# EAGLE library part STM32F407DISCOVERY (library Interposer)
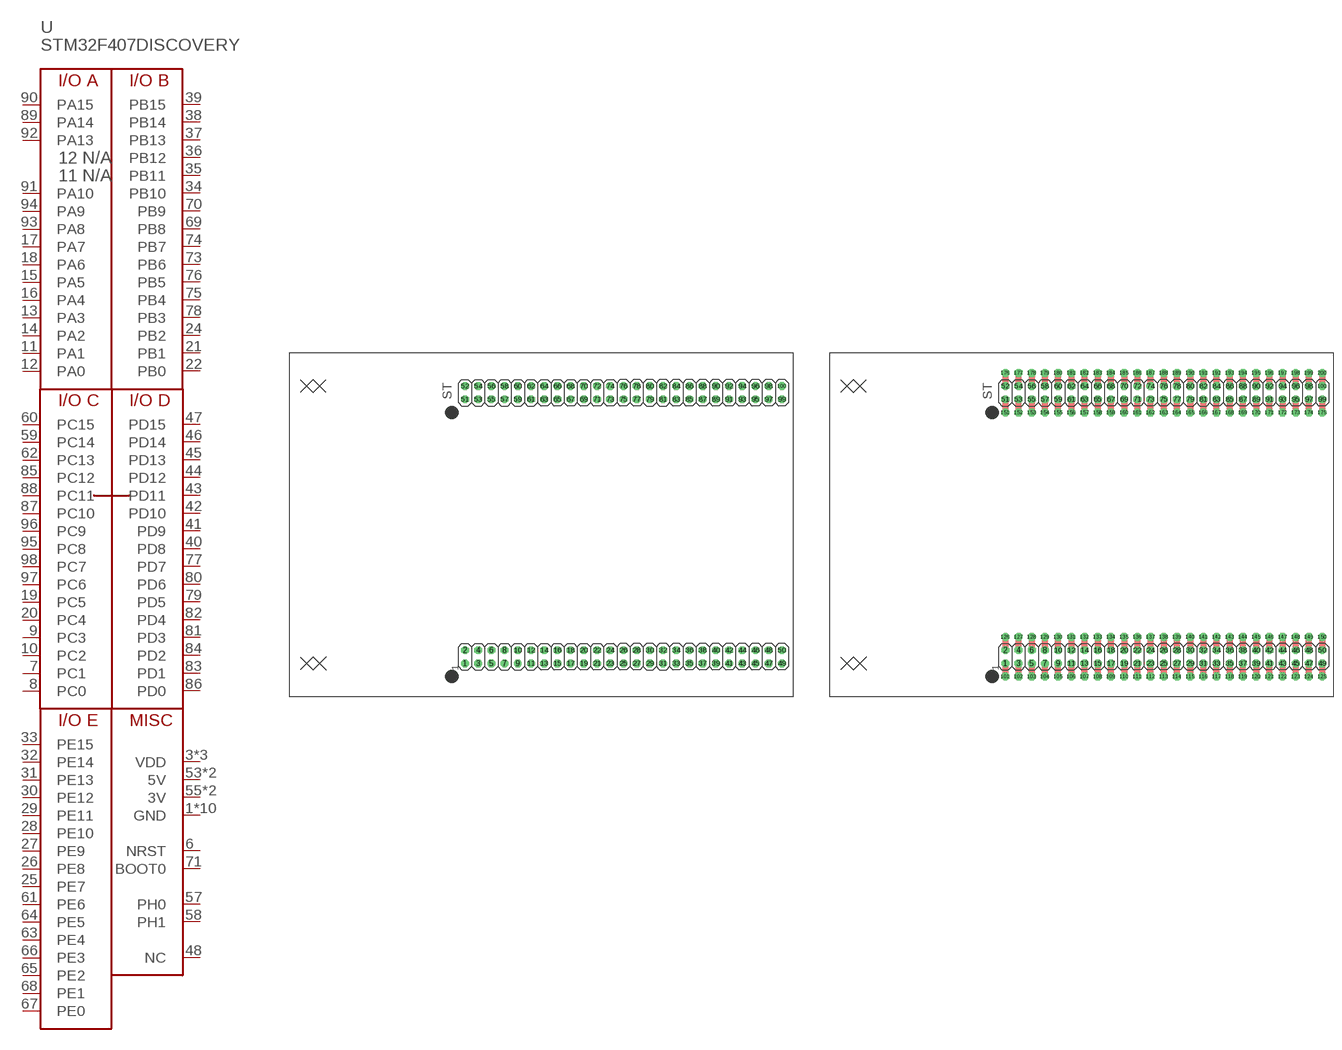
[diagram p0: symbol with the pads of STM32F407DISC; footprints STM32F407DISC, STM32F407DISC_WITH_PROTO_HEADERS]

Designator prefix -

## STM32F407DISCOVERY  [STM32F407DISC]
1  GND  sup
2  GND  sup
3  VDD  sup
4  VDD  sup
5  GND  sup
6  NRST
7  PC1
8  PC0
9  PC3
10  PC2
11  PA1
12  PA0
13  PA3
14  PA2
15  PA5
16  PA4
17  PA7
18  PA6
19  PC5
20  PC4
21  PB1
22  PB0
23  GND  sup
24  PB2
25  PE7
26  PE8
27  PE9
28  PE10
29  PE11
30  PE12
31  PE13
32  PE14
33  PE15
34  PB10
35  PB11
36  PB12
37  PB13
38  PB14
39  PB15
40  PD8
41  PD9
42  PD10
43  PD11
44  PD12
45  PD13
46  PD14
47  PD15
48  NC  nc
49  GND  sup
50  GND  sup
51  GND  sup
52  GND  sup
53  5V  sup
54  5V  sup
55  3V  sup
56  3V  sup
57  PH0
58  PH1
59  PC14
60  PC15
61  PE6
62  PC13
63  PE4
64  PE5
65  PE2
66  PE3
67  PE0
68  PE1
69  PB8
70  PB9
71  BOOT0
72  VDD  sup
73  PB6
74  PB7
75  PB4
76  PB5
77  PD7
78  PB3
79  PD5
80  PD6
81  PD3
82  PD4
83  PD1
84  PD2
85  PC12
86  PD0
87  PC10
88  PC11
89  PA14
90  PA15
91  PA10
92  PA13
93  PA8
94  PA9
95  PC8
96  PC9
97  PC6
98  PC7
99  GND  sup
100  GND  sup

## STM32F407DISCOVERYSTM32F407DISC-PROTO  [STM32F407DISC_WITH_PROTO_HEADERS]
1  GND  sup
2  GND  sup
3  VDD  sup
4  VDD  sup
5  GND  sup
6  NRST
7  PC1
8  PC0
9  PC3
10  PC2
11  PA1
12  PA0
13  PA3
14  PA2
15  PA5
16  PA4
17  PA7
18  PA6
19  PC5
20  PC4
21  PB1
22  PB0
23  GND  sup
24  PB2
25  PE7
26  PE8
27  PE9
28  PE10
29  PE11
30  PE12
31  PE13
32  PE14
33  PE15
34  PB10
35  PB11
36  PB12
37  PB13
38  PB14
39  PB15
40  PD8
41  PD9
42  PD10
43  PD11
44  PD12
45  PD13
46  PD14
47  PD15
48  NC  nc
49  GND  sup
50  GND  sup
51  GND  sup
52  GND  sup
53  5V  sup
54  5V  sup
55  3V  sup
56  3V  sup
57  PH0
58  PH1
59  PC14
60  PC15
61  PE6
62  PC13
63  PE4
64  PE5
65  PE2
66  PE3
67  PE0
68  PE1
69  PB8
70  PB9
71  BOOT0
72  VDD  sup
73  PB6
74  PB7
75  PB4
76  PB5
77  PD7
78  PB3
79  PD5
80  PD6
81  PD3
82  PD4
83  PD1
84  PD2
85  PC12
86  PD0
87  PC10
88  PC11
89  PA14
90  PA15
91  PA10
92  PA13
93  PA8
94  PA9
95  PC8
96  PC9
97  PC6
98  PC7
99  GND  sup
100  GND  sup
101  GND  sup
102  VDD  sup
103  GND  sup
104  PC1
105  PC3
106  PA1
107  PA3
108  PA5
109  PA7
110  PC5
111  PB1
112  GND  sup
113  PE7
114  PE9
115  PE11
116  PE13
117  PE15
118  PB11
119  PB13
120  PB15
121  PD9
122  PD11
123  PD13
124  PD15
125  GND  sup
126  GND  sup
127  VDD  sup
128  NRST
129  PC0
130  PC2
131  PA0
132  PA2
133  PA4
134  PA6
135  PC4
136  PB0
137  PB2
138  PE8
139  PE10
140  PE12
141  PE14
142  PB10
143  PB12
144  PB14
145  PD8
146  PD10
147  PD12
148  PD14
149  NC  nc
150  GND  sup
151  GND  sup
152  5V  sup
153  3V  sup
154  PH0
155  PC14
156  PE6
157  PE4
158  PE2
159  PE0
160  PB8
161  BOOT0
162  PB6
163  PB4
164  PD7
165  PD5
166  PD3
167  PD1
168  PC12
169  PC10
170  PA14
171  PA10
172  PA8
173  PC8
174  PC6
175  GND  sup
176  GND  sup
177  5V  sup
178  3V  sup
179  PH1
180  PC15
181  PC13
182  PE5
183  PE3
184  PE1
185  PB9
186  VDD  sup
187  PB7
188  PB5
189  PB3
190  PD6
191  PD4
192  PD2
193  PD0
194  PC11
195  PA15
196  PA13
197  PA9
198  PC9
199  PC7
200  GND  sup

## Footprint STM32F407DISC (pad centres in mm)
PIN HEADER
drill 1.016 octagon: 1 0,0; 2 0,2.54; 3 2.54,0; 4 2.54,2.54; 5 5.08,0; 6 5.08,2.54; 7 7.62,0; 8 7.62,2.54; 9 10.16,0; 10 10.16,2.54; 11 12.7,0; 12 12.7,2.54; 13 15.24,0; 14 15.24,2.54; 15 17.78,0; 16 17.78,2.54; 17 20.32,0; 18 20.32,2.54; 19 22.86,0; 20 22.86,2.54; 21 25.4,0; 22 25.4,2.54; 23 27.94,0; 24 27.94,2.54; 25 30.48,0; 26 30.48,2.54; 27 33.02,0; 28 33.02,2.54; 29 35.56,0; 30 35.56,2.54; 31 38.1,0; 32 38.1,2.54; 33 40.64,0; 34 40.64,2.54; 35 43.18,0; 36 43.18,2.54; 37 45.72,0; 38 45.72,2.54; 39 48.26,0; 40 48.26,2.54; 41 50.8,0; 42 50.8,2.54; 43 53.34,0; 44 53.34,2.54; 45 55.88,0; 46 55.88,2.54; 47 58.42,0; 48 58.42,2.54; 49 60.96,0; 50 60.96,2.54; 51 0,50.8; 52 0,53.34; 53 2.54,50.8; 54 2.54,53.34; 55 5.08,50.8; 56 5.08,53.34; 57 7.62,50.8; 58 7.62,53.34; 59 10.16,50.8; 60 10.16,53.34; 61 12.7,50.8; 62 12.7,53.34; 63 15.24,50.8; 64 15.24,53.34; 65 17.78,50.8; 66 17.78,53.34; 67 20.32,50.8; 68 20.32,53.34; 69 22.86,50.8; 70 22.86,53.34; 71 25.4,50.8; 72 25.4,53.34; 73 27.94,50.8; 74 27.94,53.34; 75 30.48,50.8; 76 30.48,53.34; 77 33.02,50.8; 78 33.02,53.34; 79 35.56,50.8; 80 35.56,53.34; 81 38.1,50.8; 82 38.1,53.34; 83 40.64,50.8; 84 40.64,53.34; 85 43.18,50.8; 86 43.18,53.34; 87 45.72,50.8; 88 45.72,53.34; 89 48.26,50.8; 90 48.26,53.34; 91 50.8,50.8; 92 50.8,53.34; 93 53.34,50.8; 94 53.34,53.34; 95 55.88,50.8; 96 55.88,53.34; 97 58.42,50.8; 98 58.42,53.34; 99 60.96,50.8; 100 60.96,53.34

## Footprint STM32F407DISC_WITH_PROTO_HEADERS (pad centres in mm)
PIN HEADER
drill 1.016 octagon: 1 0,0; 2 0,2.54; 3 2.54,0; 4 2.54,2.54; 5 5.08,0; 6 5.08,2.54; 7 7.62,0; 8 7.62,2.54; 9 10.16,0; 10 10.16,2.54; 11 12.7,0; 12 12.7,2.54; 13 15.24,0; 14 15.24,2.54; 15 17.78,0; 16 17.78,2.54; 17 20.32,0; 18 20.32,2.54; 19 22.86,0; 20 22.86,2.54; 21 25.4,0; 22 25.4,2.54; 23 27.94,0; 24 27.94,2.54; 25 30.48,0; 26 30.48,2.54; 27 33.02,0; 28 33.02,2.54; 29 35.56,0; 30 35.56,2.54; 31 38.1,0; 32 38.1,2.54; 33 40.64,0; 34 40.64,2.54; 35 43.18,0; 36 43.18,2.54; 37 45.72,0; 38 45.72,2.54; 39 48.26,0; 40 48.26,2.54; 41 50.8,0; 42 50.8,2.54; 43 53.34,0; 44 53.34,2.54; 45 55.88,0; 46 55.88,2.54; 47 58.42,0; 48 58.42,2.54; 49 60.96,0; 50 60.96,2.54; 51 0,50.8; 52 0,53.34; 53 2.54,50.8; 54 2.54,53.34; 55 5.08,50.8; 56 5.08,53.34; 57 7.62,50.8; 58 7.62,53.34; 59 10.16,50.8; 60 10.16,53.34; 61 12.7,50.8; 62 12.7,53.34; 63 15.24,50.8; 64 15.24,53.34; 65 17.78,50.8; 66 17.78,53.34; 67 20.32,50.8; 68 20.32,53.34; 69 22.86,50.8; 70 22.86,53.34; 71 25.4,50.8; 72 25.4,53.34; 73 27.94,50.8; 74 27.94,53.34; 75 30.48,50.8; 76 30.48,53.34; 77 33.02,50.8; 78 33.02,53.34; 79 35.56,50.8; 80 35.56,53.34; 81 38.1,50.8; 82 38.1,53.34; 83 40.64,50.8; 84 40.64,53.34; 85 43.18,50.8; 86 43.18,53.34; 87 45.72,50.8; 88 45.72,53.34; 89 48.26,50.8; 90 48.26,53.34; 91 50.8,50.8; 92 50.8,53.34; 93 53.34,50.8; 94 53.34,53.34; 95 55.88,50.8; 96 55.88,53.34; 97 58.42,50.8; 98 58.42,53.34; 99 60.96,50.8; 100 60.96,53.34; 101 0,-2.54; 102 2.54,-2.54; 103 5.08,-2.54; 104 7.62,-2.54; 105 10.16,-2.54; 106 12.7,-2.54; 107 15.24,-2.54; 108 17.78,-2.54; 109 20.32,-2.54; 110 22.86,-2.54; 111 25.4,-2.54; 112 27.94,-2.54; 113 30.48,-2.54; 114 33.02,-2.54; 115 35.56,-2.54; 116 38.1,-2.54; 117 40.64,-2.54; 118 43.18,-2.54; 119 45.72,-2.54; 120 48.26,-2.54; 121 50.8,-2.54; 122 53.34,-2.54; 123 55.88,-2.54; 124 58.42,-2.54; 125 60.96,-2.54; 126 0,5.08; 127 2.54,5.08; 128 5.08,5.08; 129 7.62,5.08; 130 10.16,5.08; 131 12.7,5.08; 132 15.24,5.08; 133 17.78,5.08; 134 20.32,5.08; 135 22.86,5.08; 136 25.4,5.08; 137 27.94,5.08; 138 30.48,5.08; 139 33.02,5.08; 140 35.56,5.08; 141 38.1,5.08; 142 40.64,5.08; 143 43.18,5.08; 144 45.72,5.08; 145 48.26,5.08; 146 50.8,5.08; 147 53.34,5.08; 148 55.88,5.08; 149 58.42,5.08; 150 60.96,5.08; 151 0,48.26; 152 2.54,48.26; 153 5.08,48.26; 154 7.62,48.26; 155 10.16,48.26; 156 12.7,48.26; 157 15.24,48.26; 158 17.78,48.26; 159 20.32,48.26; 160 22.86,48.26; 161 25.4,48.26; 162 27.94,48.26; 163 30.48,48.26; 164 33.02,48.26; 165 35.56,48.26; 166 38.1,48.26; 167 40.64,48.26; 168 43.18,48.26; 169 45.72,48.26; 170 48.26,48.26; 171 50.8,48.26; 172 53.34,48.26; 173 55.88,48.26; 174 58.42,48.26; 175 60.96,48.26; 176 0,55.88; 177 2.54,55.88; 178 5.08,55.88; 179 7.62,55.88; 180 10.16,55.88; 181 12.7,55.88; 182 15.24,55.88; 183 17.78,55.88; 184 20.32,55.88; 185 22.86,55.88; 186 25.4,55.88; 187 27.94,55.88; 188 30.48,55.88; 189 33.02,55.88; 190 35.56,55.88; 191 38.1,55.88; 192 40.64,55.88; 193 43.18,55.88; 194 45.72,55.88; 195 48.26,55.88; 196 50.8,55.88; 197 53.34,55.88; 198 55.88,55.88; 199 58.42,55.88; 200 60.96,55.88